# Altium footprint library Capacitor_SMD.PcbLib: 101 footprints (part 5 of 7)
Each footprint in its own frame and in the unit in brackets; x right, y up, seen from the top. Pads: shape width x height; smd on the part's side, far side on the other; paste and mask are expansions set on the pad; w line width, h text height; cw(c..) or ccw(c..) is an arc to the next point about the centre after c.
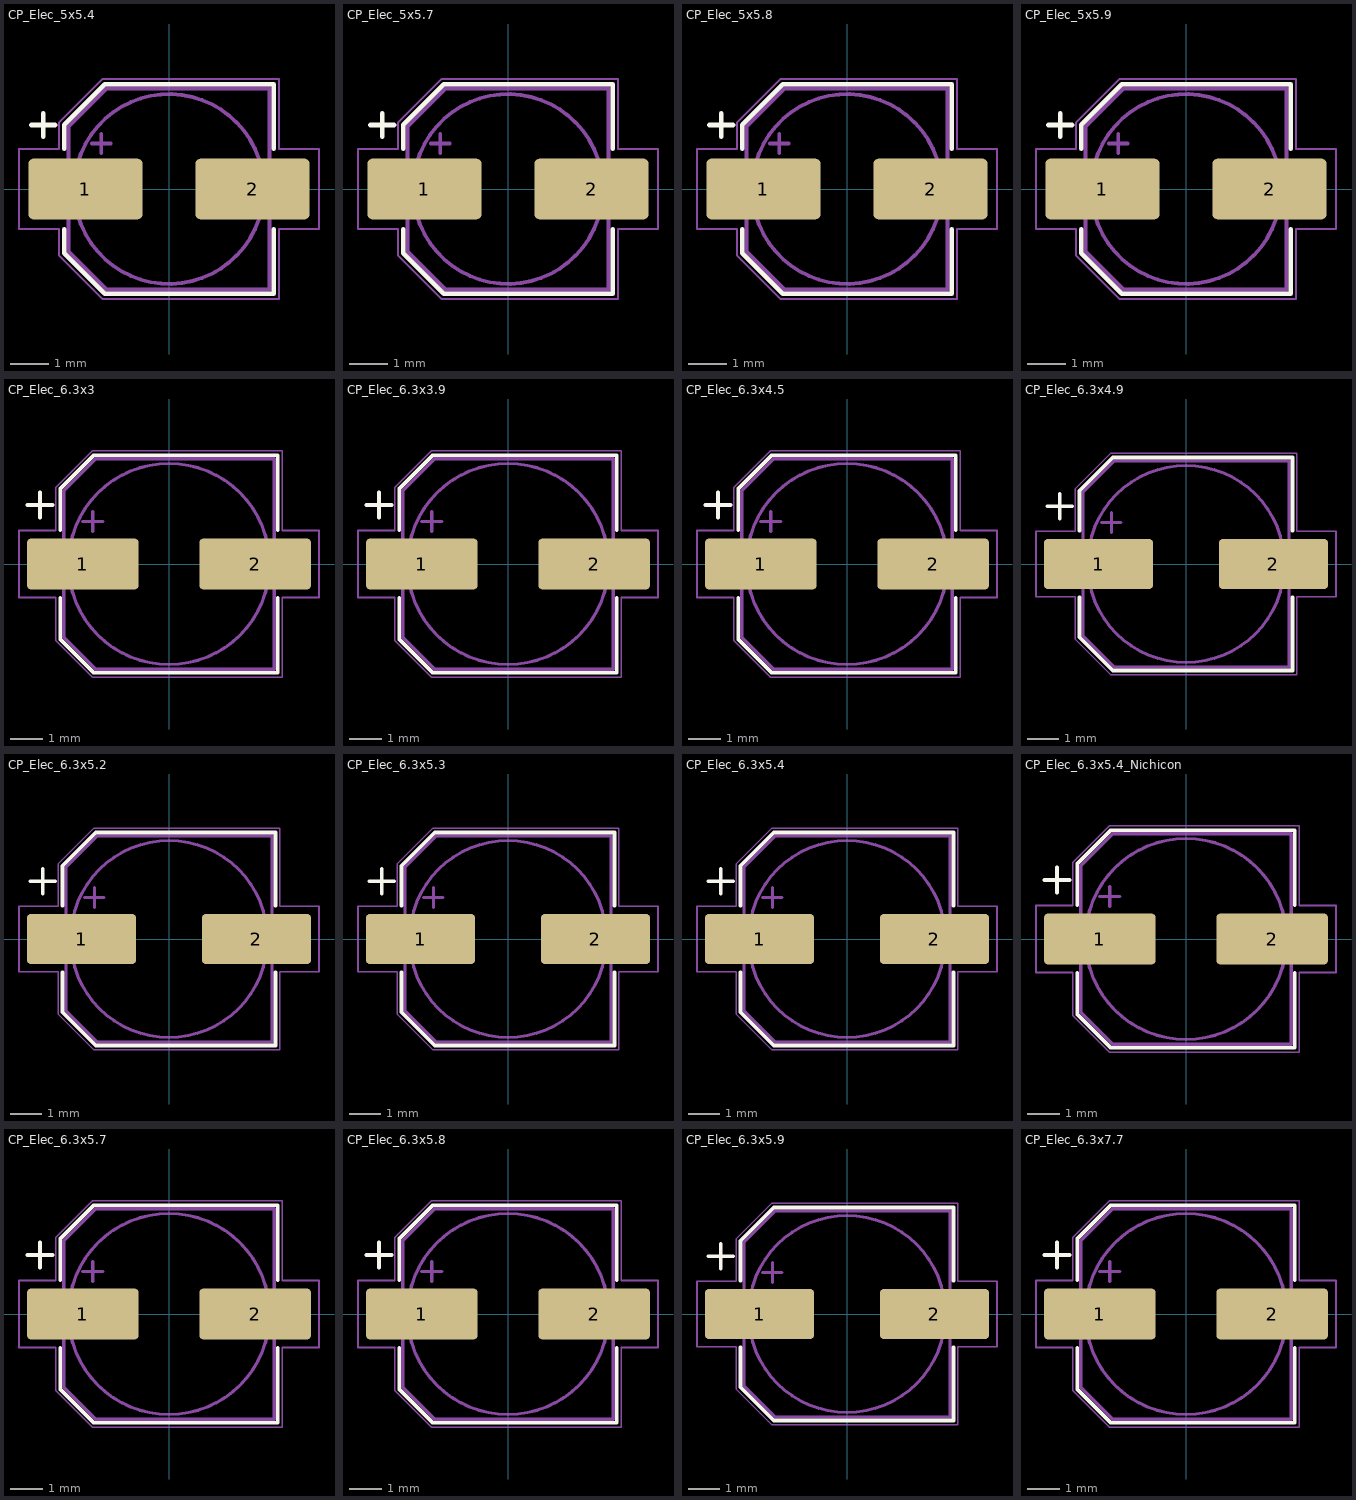
[diagram p4: the footprints below, top view; thin cyan lines are the x and y axes]

## CP_Elec_5x5.4 [mm]
pads (2):
  rrect16% 3x1.6 smd: 1(-2.2,0) 2(2.2,0)
F.SilkS:
  lines w0.12: -3.625,1.685 -3,1.685 ; -3.313,1.372 -3.313,1.997 ; -2.76,-1.06 -2.76,-1.696 -1.696,-2.76 2.76,-2.76 2.76,-1.06 ; -2.76,1.06 -2.76,1.696 -1.696,2.76 2.76,2.76 2.76,1.06
F.CrtYd:
  lines w0.05: -3.95,-1.05 -2.9,-1.05 -2.9,-1.75 -1.75,-2.9 2.9,-2.9 2.9,-1.05 3.95,-1.05 3.95,1.05 2.9,1.05 2.9,2.9 -1.75,2.9 -2.9,1.75 -2.9,1.05 -3.95,1.05 -3.95,-1.05
F.Fab:
  circle w0.1: c0,0 r2.5
  lines w0.1: -2.034,1.2 -1.534,1.2 ; -1.784,0.95 -1.784,1.45 ; -2.65,-1.65 -2.65,1.65 -1.65,2.65 2.65,2.65 2.65,-2.65 -1.65,-2.65 -2.65,-1.65
  text "'.Designator'" at -4.047,-0.84 h1
3D body "CP_Elec_5x5.4.step": height 5.4, standoff 0, extent -3.25,-2.65 3.25,2.65

## CP_Elec_5x5.7 [mm]
pads (2):
  rrect16% 3x1.6 smd: 1(-2.2,0) 2(2.2,0)
F.SilkS:
  lines w0.12: -3.625,1.685 -3,1.685 ; -3.313,1.372 -3.313,1.997 ; -2.76,-1.06 -2.76,-1.696 -1.696,-2.76 2.76,-2.76 2.76,-1.06 ; -2.76,1.06 -2.76,1.696 -1.696,2.76 2.76,2.76 2.76,1.06
F.CrtYd:
  lines w0.05: -3.95,-1.05 -2.9,-1.05 -2.9,-1.75 -1.75,-2.9 2.9,-2.9 2.9,-1.05 3.95,-1.05 3.95,1.05 2.9,1.05 2.9,2.9 -1.75,2.9 -2.9,1.75 -2.9,1.05 -3.95,1.05 -3.95,-1.05
F.Fab:
  circle w0.1: c0,0 r2.5
  lines w0.1: -2.034,1.2 -1.534,1.2 ; -1.784,0.95 -1.784,1.45 ; -2.65,-1.65 -1.65,-2.65 2.65,-2.65 2.65,2.65 -1.65,2.65 -2.65,1.65 -2.65,-1.65
  text "'.Designator'" at -4.047,-0.84 h1
3D body "CP_Elec_5x5.7.step": height 5.7, standoff 0, extent -3.25,-2.65 3.25,2.65

## CP_Elec_5x5.8 [mm]
pads (2):
  rrect16% 3x1.6 smd: 1(-2.2,0) 2(2.2,0)
F.SilkS:
  lines w0.12: -3.625,1.685 -3,1.685 ; -3.313,1.372 -3.313,1.997 ; -2.76,-1.06 -2.76,-1.696 -1.696,-2.76 2.76,-2.76 2.76,-1.06 ; -2.76,1.06 -2.76,1.696 -1.696,2.76 2.76,2.76 2.76,1.06
F.CrtYd:
  lines w0.05: -3.95,-1.05 -2.9,-1.05 -2.9,-1.75 -1.75,-2.9 2.9,-2.9 2.9,-1.05 3.95,-1.05 3.95,1.05 2.9,1.05 2.9,2.9 -1.75,2.9 -2.9,1.75 -2.9,1.05 -3.95,1.05 -3.95,-1.05
F.Fab:
  circle w0.1: c0,0 r2.5
  lines w0.1: -2.034,1.2 -1.534,1.2 ; -1.784,0.95 -1.784,1.45 ; -2.65,-1.65 -1.65,-2.65 2.65,-2.65 2.65,2.65 -1.65,2.65 -2.65,1.65 -2.65,-1.65
  text "'.Designator'" at -4.047,-0.84 h1
3D body "CP_Elec_5x5.8.step": height 5.8, standoff 0, extent -3.25,-2.65 3.25,2.65

## CP_Elec_5x5.9 [mm]
pads (2):
  rrect16% 3x1.6 smd: 1(-2.2,0) 2(2.2,0)
F.SilkS:
  lines w0.12: -3.625,1.685 -3,1.685 ; -3.313,1.372 -3.313,1.997 ; -2.76,-1.06 -2.76,-1.696 -1.696,-2.76 2.76,-2.76 2.76,-1.06 ; -2.76,1.06 -2.76,1.696 -1.696,2.76 2.76,2.76 2.76,1.06
F.CrtYd:
  lines w0.05: -3.95,-1.05 -3.95,1.05 -2.9,1.05 -2.9,1.75 -1.75,2.9 2.9,2.9 2.9,1.05 3.95,1.05 3.95,-1.05 2.9,-1.05 2.9,-2.9 -1.75,-2.9 -2.9,-1.75 -2.9,-1.05 -3.95,-1.05
F.Fab:
  circle w0.1: c0,0 r2.5
  lines w0.1: -2.034,1.2 -1.534,1.2 ; -1.784,0.95 -1.784,1.45 ; -2.65,-1.65 -1.65,-2.65 2.65,-2.65 2.65,2.65 -1.65,2.65 -2.65,1.65 -2.65,-1.65
  text "'.Designator'" at -4.047,-0.84 h1
3D body "CP_Elec_5x5.9.step": height 5.9, standoff 0, extent -3.25,-2.65 3.25,2.65

## CP_Elec_6.3x3 [mm]
pads (2):
  rrect16% 3.5x1.6 smd: 1(-2.7,0) 2(2.7,0)
F.SilkS:
  lines w0.12: -4.437,1.847 -3.65,1.847 ; -4.044,1.454 -4.044,2.241 ; -3.41,-1.06 -3.41,-2.346 -2.346,-3.41 3.41,-3.41 3.41,-1.06 ; -3.41,1.06 -3.41,2.346 -2.346,3.41 3.41,3.41 3.41,1.06
F.CrtYd:
  lines w0.05: -4.7,-1.05 -3.55,-1.05 -3.55,-2.4 -2.4,-3.55 3.55,-3.55 3.55,-1.05 4.7,-1.05 4.7,1.05 3.55,1.05 3.55,3.55 -2.4,3.55 -3.55,2.4 -3.55,1.05 -4.7,1.05 -4.7,-1.05
F.Fab:
  circle w0.1: c0,0 r3.15
  lines w0.1: -2.705,1.33 -2.075,1.33 ; -2.39,1.015 -2.39,1.645 ; -3.3,-2.3 -2.3,-3.3 3.3,-3.3 3.3,3.3 -2.3,3.3 -3.3,2.3 -3.3,-2.3
  text "'.Designator'" at -4.047,-0.84 h1
3D body "CP_Elec_6.3x3.step": height 3, standoff 0, extent -3.9,-3.3 3.9,3.3

## CP_Elec_6.3x3.9 [mm]
pads (2):
  rrect16% 3.5x1.6 smd: 1(-2.7,0) 2(2.7,0)
F.SilkS:
  lines w0.12: -4.437,1.847 -3.65,1.847 ; -4.044,1.454 -4.044,2.241 ; -3.41,-1.06 -3.41,-2.346 -2.346,-3.41 3.41,-3.41 3.41,-1.06 ; -3.41,1.06 -3.41,2.346 -2.346,3.41 3.41,3.41 3.41,1.06
F.CrtYd:
  lines w0.05: -4.7,-1.05 -4.7,1.05 -3.55,1.05 -3.55,2.4 -2.4,3.55 3.55,3.55 3.55,1.05 4.7,1.05 4.7,-1.05 3.55,-1.05 3.55,-3.55 -2.4,-3.55 -3.55,-2.4 -3.55,-1.05 -4.7,-1.05
F.Fab:
  circle w0.1: c0,0 r3.15
  lines w0.1: -2.705,1.33 -2.075,1.33 ; -2.39,1.015 -2.39,1.645 ; -3.3,-2.3 -2.3,-3.3 3.3,-3.3 3.3,3.3 -2.3,3.3 -3.3,2.3 -3.3,-2.3
  text "'.Designator'" at -4.047,-0.84 h1
3D body "CP_Elec_6.3x3.9.step": height 3.9, standoff 0, extent -3.9,-3.3 3.9,3.3

## CP_Elec_6.3x4.5 [mm]
pads (2):
  rrect16% 3.5x1.6 smd: 1(-2.7,0) 2(2.7,0)
F.SilkS:
  lines w0.12: -4.437,1.847 -3.65,1.847 ; -4.044,1.454 -4.044,2.241 ; -3.41,-1.06 -3.41,-2.346 -2.346,-3.41 3.41,-3.41 3.41,-1.06 ; -3.41,1.06 -3.41,2.346 -2.346,3.41 3.41,3.41 3.41,1.06
F.CrtYd:
  lines w0.05: -4.7,-1.05 -4.7,1.05 -3.55,1.05 -3.55,2.4 -2.4,3.55 3.55,3.55 3.55,1.05 4.7,1.05 4.7,-1.05 3.55,-1.05 3.55,-3.55 -2.4,-3.55 -3.55,-2.4 -3.55,-1.05 -4.7,-1.05
F.Fab:
  circle w0.1: c0,0 r3.15
  lines w0.1: -2.705,1.33 -2.075,1.33 ; -2.39,1.015 -2.39,1.645 ; -3.3,-2.3 -3.3,2.3 -2.3,3.3 3.3,3.3 3.3,-3.3 -2.3,-3.3 -3.3,-2.3
  text "'.Designator'" at -4.047,-0.84 h1
3D body "CP_Elec_6.3x4.5.step": height 4.5, standoff 0, extent -3.9,-3.3 3.9,3.3

## CP_Elec_6.3x4.9 [mm]
pads (2):
  rrect16% 3.5x1.6 smd: 1(-2.8,0) 2(2.8,0)
F.SilkS:
  lines w0.12: -4.437,1.847 -3.65,1.847 ; -4.044,1.454 -4.044,2.241 ; -3.41,-1.06 -3.41,-2.346 -2.346,-3.41 3.41,-3.41 3.41,-1.06 ; -3.41,1.06 -3.41,2.346 -2.346,3.41 3.41,3.41 3.41,1.06
F.CrtYd:
  lines w0.05: -4.8,-1.05 -3.55,-1.05 -3.55,-2.4 -2.4,-3.55 3.55,-3.55 3.55,-1.05 4.8,-1.05 4.8,1.05 3.55,1.05 3.55,3.55 -2.4,3.55 -3.55,2.4 -3.55,1.05 -4.8,1.05 -4.8,-1.05
F.Fab:
  circle w0.1: c0,0 r3.15
  lines w0.1: -2.705,1.33 -2.075,1.33 ; -2.39,1.015 -2.39,1.645 ; -3.3,-2.3 -2.3,-3.3 3.3,-3.3 3.3,3.3 -2.3,3.3 -3.3,2.3 -3.3,-2.3
  text "'.Designator'" at -4.047,-0.84 h1
3D body "CP_Elec_6.3x4.9.step": height 4.9, standoff 0, extent -3.9,-3.3 3.9,3.3

## CP_Elec_6.3x5.2 [mm]
pads (2):
  rrect16% 3.5x1.6 smd: 1(-2.8,0) 2(2.8,0)
F.SilkS:
  lines w0.12: -4.437,1.847 -3.65,1.847 ; -4.044,1.454 -4.044,2.241 ; -3.41,-1.06 -3.41,-2.346 -2.346,-3.41 3.41,-3.41 3.41,-1.06 ; -3.41,1.06 -3.41,2.346 -2.346,3.41 3.41,3.41 3.41,1.06
F.CrtYd:
  lines w0.05: -4.8,-1.05 -4.8,1.05 -3.55,1.05 -3.55,2.4 -2.4,3.55 3.55,3.55 3.55,1.05 4.8,1.05 4.8,-1.05 3.55,-1.05 3.55,-3.55 -2.4,-3.55 -3.55,-2.4 -3.55,-1.05 -4.8,-1.05
F.Fab:
  circle w0.1: c0,0 r3.15
  lines w0.1: -2.705,1.33 -2.075,1.33 ; -2.39,1.015 -2.39,1.645 ; -3.3,-2.3 -2.3,-3.3 3.3,-3.3 3.3,3.3 -2.3,3.3 -3.3,2.3 -3.3,-2.3
  text "'.Designator'" at -4.047,-0.84 h1
3D body "CP_Elec_6.3x5.2.step": height 5.2, standoff 0, extent -3.9,-3.3 3.9,3.3

## CP_Elec_6.3x5.3 [mm]
pads (2):
  rrect16% 3.5x1.6 smd: 1(-2.8,0) 2(2.8,0)
F.SilkS:
  lines w0.12: -4.437,1.847 -3.65,1.847 ; -4.044,1.454 -4.044,2.241 ; -3.41,-1.06 -3.41,-2.346 -2.346,-3.41 3.41,-3.41 3.41,-1.06 ; -3.41,1.06 -3.41,2.346 -2.346,3.41 3.41,3.41 3.41,1.06
F.CrtYd:
  lines w0.05: -4.8,-1.05 -4.8,1.05 -3.55,1.05 -3.55,2.4 -2.4,3.55 3.55,3.55 3.55,1.05 4.8,1.05 4.8,-1.05 3.55,-1.05 3.55,-3.55 -2.4,-3.55 -3.55,-2.4 -3.55,-1.05 -4.8,-1.05
F.Fab:
  circle w0.1: c0,0 r3.15
  lines w0.1: -2.705,1.33 -2.075,1.33 ; -2.39,1.015 -2.39,1.645 ; -3.3,-2.3 -3.3,2.3 -2.3,3.3 3.3,3.3 3.3,-3.3 -2.3,-3.3 -3.3,-2.3
  text "'.Designator'" at -4.047,-0.84 h1
3D body "CP_Elec_6.3x5.3.step": height 5.3, standoff 0, extent -3.9,-3.3 3.9,3.3

## CP_Elec_6.3x5.4 [mm]
pads (2):
  rrect16% 3.5x1.6 smd: 1(-2.8,0) 2(2.8,0)
F.SilkS:
  lines w0.12: -4.437,1.847 -3.65,1.847 ; -4.044,1.454 -4.044,2.241 ; -3.41,-1.06 -3.41,-2.346 -2.346,-3.41 3.41,-3.41 3.41,-1.06 ; -3.41,1.06 -3.41,2.346 -2.346,3.41 3.41,3.41 3.41,1.06
F.CrtYd:
  lines w0.05: -4.8,-1.05 -3.55,-1.05 -3.55,-2.4 -2.4,-3.55 3.55,-3.55 3.55,-1.05 4.8,-1.05 4.8,1.05 3.55,1.05 3.55,3.55 -2.4,3.55 -3.55,2.4 -3.55,1.05 -4.8,1.05 -4.8,-1.05
F.Fab:
  circle w0.1: c0,0 r3.15
  lines w0.1: -2.705,1.33 -2.075,1.33 ; -2.39,1.015 -2.39,1.645 ; -3.3,-2.3 -3.3,2.3 -2.3,3.3 3.3,3.3 3.3,-3.3 -2.3,-3.3 -3.3,-2.3
  text "'.Designator'" at -4.047,-0.84 h1
3D body "CP_Elec_6.3x5.4.step": height 5.4, standoff 0, extent -3.9,-3.3 3.9,3.3

## CP_Elec_6.3x5.4_Nichicon [mm]
pads (2):
  rrect16% 3.5x1.6 smd: 1(-2.7,0) 2(2.7,0)
F.SilkS:
  lines w0.12: -4.437,1.847 -3.65,1.847 ; -4.044,1.454 -4.044,2.241 ; -3.41,-1.06 -3.41,-2.346 -2.346,-3.41 3.41,-3.41 3.41,-1.06 ; -3.41,1.06 -3.41,2.346 -2.346,3.41 3.41,3.41 3.41,1.06
F.CrtYd:
  lines w0.05: -4.7,-1.05 -3.55,-1.05 -3.55,-2.4 -2.4,-3.55 3.55,-3.55 3.55,-1.05 4.7,-1.05 4.7,1.05 3.55,1.05 3.55,3.55 -2.4,3.55 -3.55,2.4 -3.55,1.05 -4.7,1.05 -4.7,-1.05
F.Fab:
  circle w0.1: c0,0 r3.15
  lines w0.1: -2.705,1.33 -2.075,1.33 ; -2.39,1.015 -2.39,1.645 ; -3.3,-2.3 -2.3,-3.3 3.3,-3.3 3.3,3.3 -2.3,3.3 -3.3,2.3 -3.3,-2.3
  text "'.Designator'" at -4.047,-0.84 h1
3D body "CP_Elec_6.3x5.4_Nichicon.step": height 5.4, standoff 0, extent -3.9,-3.3 3.9,3.3

## CP_Elec_6.3x5.7 [mm]
pads (2):
  rrect16% 3.5x1.6 smd: 1(-2.7,0) 2(2.7,0)
F.SilkS:
  lines w0.12: -4.437,1.847 -3.65,1.847 ; -4.044,1.454 -4.044,2.241 ; -3.41,-1.06 -3.41,-2.346 -2.346,-3.41 3.41,-3.41 3.41,-1.06 ; -3.41,1.06 -3.41,2.346 -2.346,3.41 3.41,3.41 3.41,1.06
F.CrtYd:
  lines w0.05: -4.7,-1.05 -3.55,-1.05 -3.55,-2.4 -2.4,-3.55 3.55,-3.55 3.55,-1.05 4.7,-1.05 4.7,1.05 3.55,1.05 3.55,3.55 -2.4,3.55 -3.55,2.4 -3.55,1.05 -4.7,1.05 -4.7,-1.05
F.Fab:
  circle w0.1: c0,0 r3.15
  lines w0.1: -2.705,1.33 -2.075,1.33 ; -2.39,1.015 -2.39,1.645 ; -3.3,-2.3 -2.3,-3.3 3.3,-3.3 3.3,3.3 -2.3,3.3 -3.3,2.3 -3.3,-2.3
  text "'.Designator'" at -4.047,-0.84 h1
3D body "CP_Elec_6.3x5.7.step": height 5.7, standoff 0, extent -3.9,-3.3 3.9,3.3

## CP_Elec_6.3x5.8 [mm]
pads (2):
  rrect16% 3.5x1.6 smd: 1(-2.7,0) 2(2.7,0)
F.SilkS:
  lines w0.12: -4.437,1.847 -3.65,1.847 ; -4.044,1.454 -4.044,2.241 ; -3.41,-1.06 -3.41,-2.346 -2.346,-3.41 3.41,-3.41 3.41,-1.06 ; -3.41,1.06 -3.41,2.346 -2.346,3.41 3.41,3.41 3.41,1.06
F.CrtYd:
  lines w0.05: -4.7,-1.05 -3.55,-1.05 -3.55,-2.4 -2.4,-3.55 3.55,-3.55 3.55,-1.05 4.7,-1.05 4.7,1.05 3.55,1.05 3.55,3.55 -2.4,3.55 -3.55,2.4 -3.55,1.05 -4.7,1.05 -4.7,-1.05
F.Fab:
  circle w0.1: c0,0 r3.15
  lines w0.1: -2.705,1.33 -2.075,1.33 ; -2.39,1.015 -2.39,1.645 ; -3.3,-2.3 -3.3,2.3 -2.3,3.3 3.3,3.3 3.3,-3.3 -2.3,-3.3 -3.3,-2.3
  text "'.Designator'" at -4.047,-0.84 h1
3D body "CP_Elec_6.3x5.8.step": height 5.8, standoff 0, extent -3.9,-3.3 3.9,3.3

## CP_Elec_6.3x5.9 [mm]
pads (2):
  rrect16% 3.5x1.6 smd: 1(-2.8,0) 2(2.8,0)
F.SilkS:
  lines w0.12: -4.437,1.847 -3.65,1.847 ; -4.044,1.454 -4.044,2.241 ; -3.41,-1.06 -3.41,-2.346 -2.346,-3.41 3.41,-3.41 3.41,-1.06 ; -3.41,1.06 -3.41,2.346 -2.346,3.41 3.41,3.41 3.41,1.06
F.CrtYd:
  lines w0.05: -4.8,-1.05 -3.55,-1.05 -3.55,-2.4 -2.4,-3.55 3.55,-3.55 3.55,-1.05 4.8,-1.05 4.8,1.05 3.55,1.05 3.55,3.55 -2.4,3.55 -3.55,2.4 -3.55,1.05 -4.8,1.05 -4.8,-1.05
F.Fab:
  circle w0.1: c0,0 r3.15
  lines w0.1: -2.705,1.33 -2.075,1.33 ; -2.39,1.015 -2.39,1.645 ; -3.3,-2.3 -2.3,-3.3 3.3,-3.3 3.3,3.3 -2.3,3.3 -3.3,2.3 -3.3,-2.3
  text "'.Designator'" at -4.047,-0.84 h1
3D body "CP_Elec_6.3x5.9.step": height 5.9, standoff 0, extent -3.9,-3.3 3.9,3.3

## CP_Elec_6.3x7.7 [mm]
pads (2):
  rrect16% 3.5x1.6 smd: 1(-2.7,0) 2(2.7,0)
F.SilkS:
  lines w0.12: -4.437,1.847 -3.65,1.847 ; -4.044,1.454 -4.044,2.241 ; -3.41,-1.06 -3.41,-2.346 -2.346,-3.41 3.41,-3.41 3.41,-1.06 ; -3.41,1.06 -3.41,2.346 -2.346,3.41 3.41,3.41 3.41,1.06
F.CrtYd:
  lines w0.05: -4.7,-1.05 -3.55,-1.05 -3.55,-2.4 -2.4,-3.55 3.55,-3.55 3.55,-1.05 4.7,-1.05 4.7,1.05 3.55,1.05 3.55,3.55 -2.4,3.55 -3.55,2.4 -3.55,1.05 -4.7,1.05 -4.7,-1.05
F.Fab:
  circle w0.1: c0,0 r3.15
  lines w0.1: -2.705,1.33 -2.075,1.33 ; -2.39,1.015 -2.39,1.645 ; -3.3,-2.3 -3.3,2.3 -2.3,3.3 3.3,3.3 3.3,-3.3 -2.3,-3.3 -3.3,-2.3
  text "'.Designator'" at -4.047,-0.84 h1
3D body "CP_Elec_6.3x7.7.step": height 7.7, standoff 0, extent -3.9,-3.3 3.9,3.3